# Altium integrated library MHQ1005PR51GT000.IntLib: 1 symbol
Pins are listed as number, name and electrical type; pins without a type are passive.

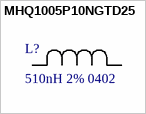
[diagram p0: symbol MHQ1005P10NGTD25]

## MHQ1005P10NGTD25
designator L?, comment 510nH 2% 0402
Fixed Inductors 0402 510nH 2% 70mA 10.2ohms; Manufacturer_Part_Number: MHQ1005P10NGTD25; Vendor: TDK; Built_By: EMA_UL_Team; Type: DEV; C: Copyright (C) 2015 Accelerated Designs. All rights reserved; RefDes: RefDes; Value: Value
footprint IND_1005
pins: 1, 2